# Altium schematic symbol library STP3NK80Z.Schlib: 1 symbol
Pins are listed as number, name and electrical type; pins without a type are passive.

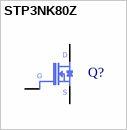
[diagram p0: symbol STP3NK80Z]

## STP3NK80Z
designator Q?  (value not drawn)
pins: 1 G, 2 D, 3 S